# Altium footprint library PCB - LEADED - DO-214.PCBLIB: 1 footprints
Each footprint in its own frame and in the unit in brackets; x right, y up, seen from the top. Pads: shape width x height; smd on the part's side, far side on the other; paste and mask are expansions set on the pad; w line width, h text height; cw(c..) or ccw(c..) is an arc to the next point about the centre after c.
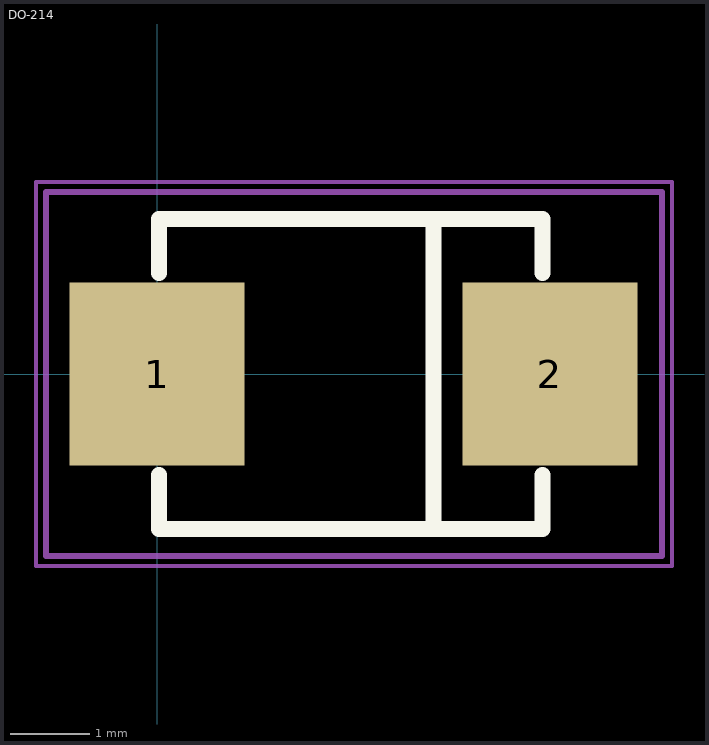
[diagram p0: the footprint, top view; thin cyan lines are the x and y axes]

## DO-214 [mm] "SMD SMB size"
height 10.3
pads (2):
  rect 2.2x2.3 smd: 1(0,0) 2(4.94,0)
Top Overlay:
  lines w0.203: 0.025,-1.27 0.025,-1.95 4.845,-1.95 4.845,-1.27 ; 0.025,1.27 0.025,1.95 4.845,1.95 4.845,1.27 ; 3.475,-1.95 3.475,1.95
Top Assembly:
  lines w0.076: -1.397,-2.286 -1.397,2.286 6.35,2.286 6.35,-2.286 -1.397,-2.286
  text ".Designator" at -0.762,2.921 h1.52
Top Courtyard (Mech7):
  lines w0.051: -1.524,-2.413 6.477,-2.413 6.477,2.413 -1.524,2.413 -1.524,-2.413
3D body "DO-214AA(SMB).STEP": height 2.62, standoff -0.03, extent -0.335,-1.975 5.253,1.975